# EAGLE library part ILX511 (library SpectroLib)
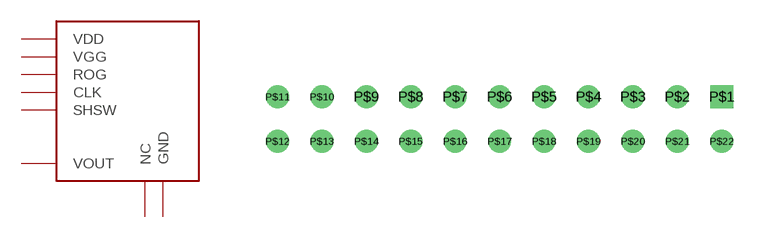
[diagram p5: symbol with the pads of ILX511; footprint ILX511]

Designator prefix -

## ILX511  [ILX511]
P$1  VOUT
P$2  GND
P$3  GND
P$4  SHSW
P$5  CLK
P$6  VDD
P$7  NC
P$8  NC
P$9  VDD
P$10  NC
P$11  ROG
P$12  GND
P$13  NC
P$14  NC
P$15  VDD
P$16  GND
P$17  GND
P$18  VGG
P$19  GND
P$20  VDD
P$21  VDD
P$22  VDD

## Footprint ILX511 (pad centres in mm)
drill 0.8 square: P$1 0,0
drill 0.8: P$2 -2.54,0; P$3 -5.08,0; P$4 -7.62,0; P$5 -10.16,0; P$6 -12.7,0; P$7 -15.24,0; P$8 -17.78,0; P$9 -20.32,0; P$10 -22.86,0; P$11 -25.4,0; P$12 -25.4,-2.54; P$13 -22.86,-2.54; P$14 -20.32,-2.54; P$15 -17.78,-2.54; P$16 -15.24,-2.54; P$17 -12.7,-2.54; P$18 -10.16,-2.54; P$19 -7.62,-2.54; P$20 -5.08,-2.54; P$21 -2.54,-2.54; P$22 0,-2.54